# Altium schematic symbol library IC_MAX483.SchLib: 1 symbol
Pins are listed as number, name and electrical type; pins without a type are passive.

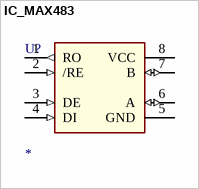
[diagram p0: symbol IC_MAX483]

## IC_MAX483
designator U?
Enhanced Low EMI Half-Duplex  RS-485 Transceiver
pins: 1 RO (out), 2 /RE (in), 3 DE (in), 4 DI (in), 5 GND, 6 A (io), 7 B (io), 8 VCC